# EAGLE library part CS4270 (library ld-components)
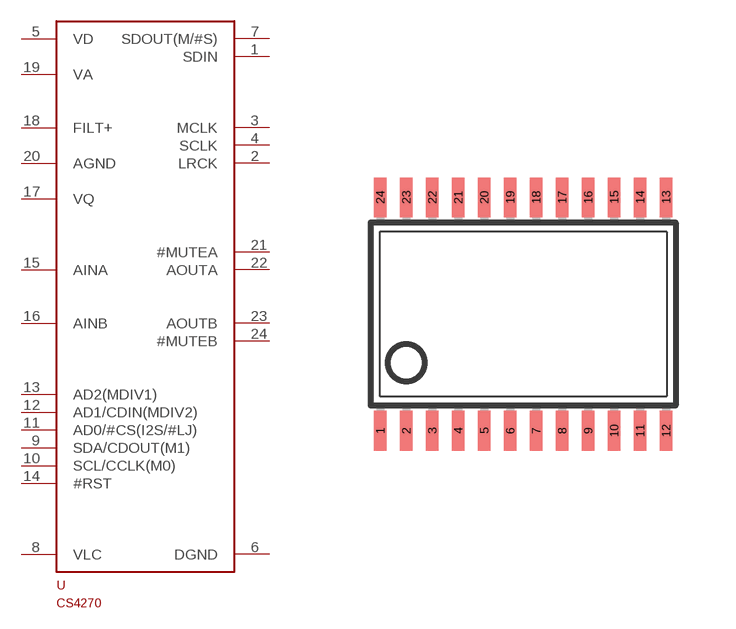
[diagram p2: symbol with the pads of TSSOP24; footprint TSSOP24]

Designator prefix -

## CS4270  [TSSOP24]
1  SDIN
2  LRCK
3  MCLK
4  SCLK
5  VD
6  DGND
7  SDOUT(M/#S)
8  VLC
9  SDA/CDOUT(M1)
10  SCL/CCLK(M0)
11  AD0/#CS(I2S/#LJ)
12  AD1/CDIN(MDIV2)
13  AD2(MDIV1)
14  #RST
15  AINA
16  AINB
17  VQ
18  FILT+
19  VA
20  AGND
21  #MUTEA
22  AOUTA
23  AOUTB
24  #MUTEB

## Footprint TSSOP24 (pad centres in mm)
Thin Shrink Small Outline Plastic 24 MAX3223-MAX3243.pdf
smd 0.305 x 0.991: 1 -3.575,-2.918; 2 -2.925,-2.918; 3 -2.275,-2.918; 4 -1.625,-2.918; 5 -0.975,-2.918; 6 -0.325,-2.918; 7 0.325,-2.918; 8 0.975,-2.918; 9 1.625,-2.918; 10 2.275,-2.918; 11 2.925,-2.918; 12 3.575,-2.918; 13 3.575,2.918; 14 2.925,2.918; 15 2.275,2.918; 16 1.625,2.918; 17 0.975,2.918; 18 0.325,2.918; 19 -0.325,2.918; 20 -0.975,2.918; 21 -1.625,2.918; 22 -2.275,2.918; 23 -2.925,2.918; 24 -3.575,2.918